# Altium integrated library Components - 16.09.25 - 17.38.IntLib: 1 symbol
Pins are listed as number, name and electrical type; pins without a type are passive.

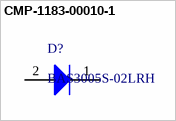
[diagram p0: symbol CMP-1183-00010-1]

## CMP-1183-00010-1
designator D?, comment BAS3005S-02LRH
Low VF Schottky Diode, -55 to 150 degC, TSLP-2-17, Green; Manufacturer: Infineon; CT (max): 15Â pF; IF (max): 0.5Â A; VR (max): 30Â V; Green: TRUE; Configuration: Single; VF (max): 500Â mV; ComponentLink1Description: Manufacturer URL; Halogen-free: TRUE; ComponentLink1URL: http://www.infineon.com/; ComponentLink3Description: Package Specification; ComponentLink3URL: http://www.infineon.com/dgdl/TSLP-2-7%2C-17-Package_Overview.pdf?folderId=db3a30431936bc4b011956dca02837a0&fileId=db3a30431936bc4b01195723a67f37c1; ComponentLink2Description: Datasheet; PackageDescription: 2-Pin Thin Small Leadless Package, Body 1 x 0.6 mm, Pitch 0.65 mm; PackageVersion: Apr-13; PartNumber: BAS3005S-02LRH; Mounting Technology: Surface Mount; PackageReference: TSLP-2-17; ComponentLink2URL: http://www.infineon.com/dgdl/bas3005s-02lrh.pdf?folderId=db3a304313d846880113def5812204a1&fileId=db3a30431ed1d7b2011f403b235b4ec0
footprint INF-TSLP-2-17_V (TSLP, 2-Leads, Body 1x0.6mm, Pitch 0.65mm)
pins: 1 K, 2 A